# Altium schematic symbol library HDMI_Micro_19Pin.Schlib: 1 symbol
Pins are listed as number, name and electrical type; pins without a type are passive.

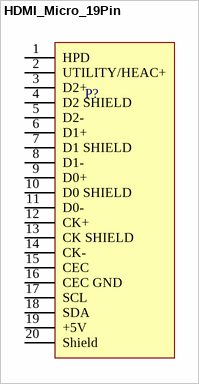
[diagram p0: symbol HDMI_Micro_19Pin]

## HDMI_Micro_19Pin
designator P?
Micro HDMI Connector with 19 Pins
pins: 1 HPD, 2 UTILITY/HEAC+, 3 D2+, 4 D2 SHIELD, 5 D2-, 6 D1+, 7 D1 SHIELD, 8 D1-, 9 D0+, 10 D0 SHIELD, 11 D0-, 12 CK+, 13 CK SHIELD, 14 CK-, 15 CEC, 16 CEC GND, 17 SCL, 18 SDA, 19 +5V, 20 Shield